# Altium schematic symbol library GOST_Transistors.SchLib: 4 symbols
Pins are listed as number, name and electrical type; pins without a type are passive.

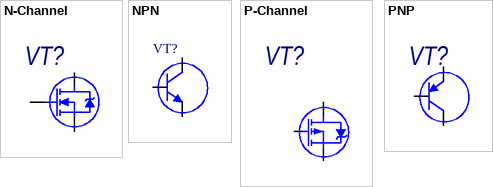
[diagram p0: symbols N-Channel to PNP]

## N-Channel
designator VT?  (value not drawn)
U_gs: *; HelpURL: *; Model: *; Manufacture: *; U_sd: *; I_d: *; Case: *
pins: 1 G, 2 D, 3 S

## NPN
designator VT?  (value not drawn)
HelpURL: *; Model: *; Manufacture: *; Case: *; I_max: *; U_max: *; I_open: *
pins: 1 B, 2 C, 3 E

## P-Channel
designator VT?  (value not drawn)
I_d: *; HelpURL: *; Model: *; Manufacture: *; U_gs: *; U_sd: *; Case: *
pins: 1 G, 2 D, 3 S

## PNP
designator VT?  (value not drawn)
HelpURL: *; Model: *; Manufacture: *; I_max: *; U_max: *; I_open: *; Case: *
pins: 1 B, 2 E, 3 C